# Altium schematic symbol library kmilo17pet-LT_OpAmp_LT1000.SchLib: 2280 symbols (part 65 of 79)
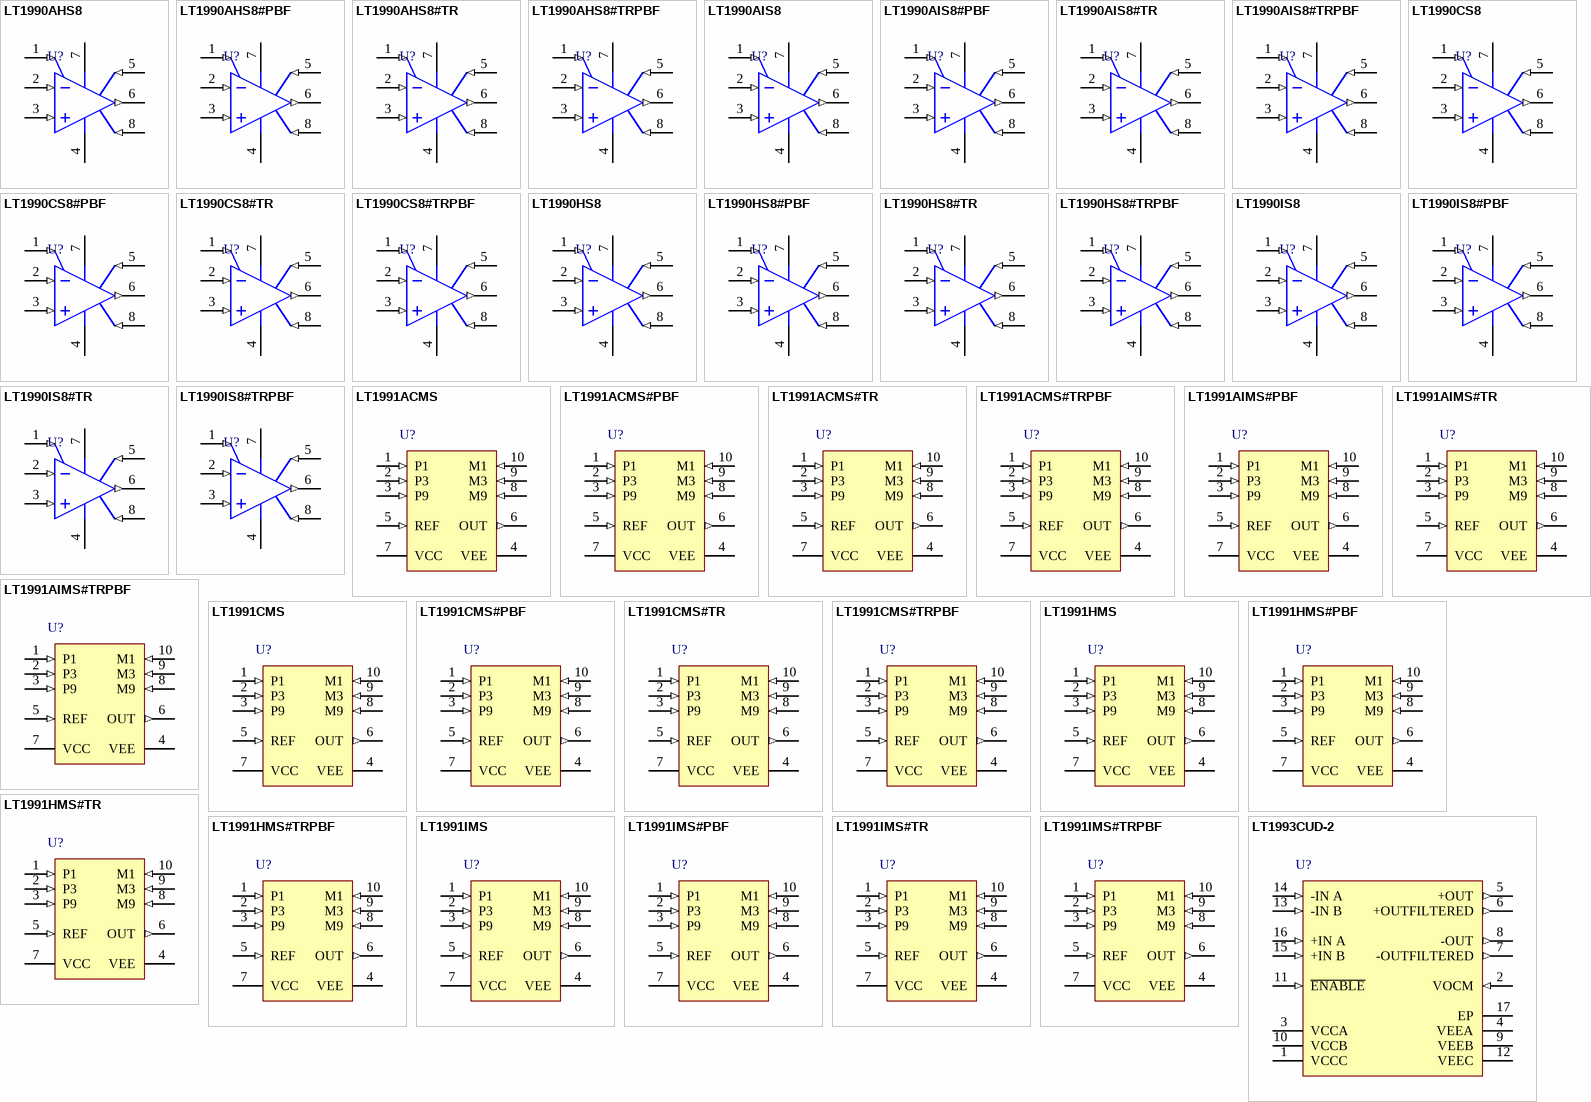
[diagram p169: symbols LT1990AHS8 to LT1993CUD-2]

## LT1991AIMS#PBF
designator U?
Single Channel, Precision, -13 to 14 Gain Selectable Operational Amplifier, 0.56 MHz Typical GBW, 0.12 V/us Typical SR, 2.4 to 40 V, 10-Pin SOP (MS-10), Industrial, Pb-Free; Linear Technology Part Number: LT1991; Manufacturer: Linear Technology; PartNumber: LT1991AIMS#PBF; Channels (#): 1; GBW (MHz) Typical: 0.56; Is (mA) Typical: 0.1; SR (V/us) Typical: 0.12; Vos (mV) Guaranteed: 0.05; Vos (mV) Typical: 0.015; Vs Max (V): 40; Vs Min (V): 2.4; DatasheetVersion: Rev. H; PackageVersion: Rev E; PackageReference: LT-MS-10; PackageDescription: 10-Lead Plastic MSOP, Body 3 x 3 mm, Pitch 0.5 mm; Supplier 1: Digi-Key; Supplier Part Number 1: LT1991AIMS#PBF-ND; Supplier 2: Farnell; Supplier Part Number 2: 2294659; Supplier 3: Newark; Supplier Part Number 3: 57M7683; RoHS: Pb-Free; Type: SGA; Mounting Technology: Surface Mount; ComponentLink1Description: Manufacturer URL; ComponentLink1URL: http://www.linear.com/; ComponentLink2Description: Datasheet; ComponentLink2URL: http://cds.linear.com/docs/en/datasheet/1991fh.pdf; ComponentLink3Description: Package Specification; ComponentLink3URL: http://cds.linear.com/docs/en/packaging/MSOP_10_05-08-1661.pdf
footprint LT-MS-10_N (SOP, 10-Leads, Body 3x3mm, Pitch 0.50mm, IPC Medium Density)
footprint LT-MS-10_L (SOP, 10-Leads, Body 3x3mm, Pitch 0.50mm, IPC High Density)
footprint LT-MS-10_M (SOP, 10-Leads, Body 3x3mm, Pitch 0.50mm, IPC Low Density)
pins: 1 P1 (in) "Noninverting Gain-of-1 input. Connects a 450k internal resistor to the op amp’s noninverting input.", 2 P3 (in) "Noninverting Gain-of-3 input. Connects a 150k internal resistor to the op amp’s noninverting input.", 3 P9 (in) "Noninverting Gain-of-9 input. Connects a 50k internal resistor to the op amp’s noninverting input.", 4 VEE (power) "Negative Power Supply. Can be either ground (in single supply applications), or a negative voltage (in split supply applications).", 5 REF (in) "Reference Input. Sets the output level when difference between inputs is zero. Connects a 450k internal resistor to the op amp’s noninverting input.", 6 OUT (out) "Output. VOUT = VREF + 1 ?(VP1 - VM1) + 3 ?(VP3 - VM3) + 9 ?(VP9 - VM9).", 7 VCC (power) "Positive Power Supply. Can be anything from 2.7V to 36V above the VEE voltage.", 8 M9 (in) "Inverting Gain-of-9 input. Connects a 50k internal resistor to the op amp’s inverting input.", 9 M3 (in) "Inverting Gain-of-3 input. Connects a 150k internal resistor to the op amp’s inverting input.", 10 M1 (in) "Inverting Gain-of-1 input. Connects a 450k internal resistor to the op amp’s inverting input."

## LT1991AIMS#TR
designator U?
Single Channel, Precision, -13 to 14 Gain Selectable Operational Amplifier, 0.56 MHz Typical GBW, 0.12 V/us Typical SR, 2.4 to 40 V, 10-Pin SOP (MS-10), Industrial, Reel; Linear Technology Part Number: LT1991; Manufacturer: Linear Technology; PartNumber: LT1991AIMS#TR; Channels (#): 1; GBW (MHz) Typical: 0.56; Is (mA) Typical: 0.1; SR (V/us) Typical: 0.12; Vos (mV) Guaranteed: 0.05; Vos (mV) Typical: 0.015; Vs Max (V): 40; Vs Min (V): 2.4; DatasheetVersion: Rev. H; PackageVersion: Rev E; PackageReference: LT-MS-10; PackageDescription: 10-Lead Plastic MSOP, Body 3 x 3 mm, Pitch 0.5 mm; Supplier 1: Digi-Key; Supplier Part Number 1: LT1991AIMS#TR-ND; Packing: Reel; Type: SGA; Mounting Technology: Surface Mount; ComponentLink1Description: Manufacturer URL; ComponentLink1URL: http://www.linear.com/; ComponentLink2Description: Datasheet; ComponentLink2URL: http://cds.linear.com/docs/en/datasheet/1991fh.pdf; ComponentLink3Description: Package Specification; ComponentLink3URL: http://cds.linear.com/docs/en/packaging/MSOP_10_05-08-1661.pdf
footprint LT-MS-10_N (SOP, 10-Leads, Body 3x3mm, Pitch 0.50mm, IPC Medium Density)
footprint LT-MS-10_L (SOP, 10-Leads, Body 3x3mm, Pitch 0.50mm, IPC High Density)
footprint LT-MS-10_M (SOP, 10-Leads, Body 3x3mm, Pitch 0.50mm, IPC Low Density)
pins: 1 P1 (in) "Noninverting Gain-of-1 input. Connects a 450k internal resistor to the op amp’s noninverting input.", 2 P3 (in) "Noninverting Gain-of-3 input. Connects a 150k internal resistor to the op amp’s noninverting input.", 3 P9 (in) "Noninverting Gain-of-9 input. Connects a 50k internal resistor to the op amp’s noninverting input.", 4 VEE (power) "Negative Power Supply. Can be either ground (in single supply applications), or a negative voltage (in split supply applications).", 5 REF (in) "Reference Input. Sets the output level when difference between inputs is zero. Connects a 450k internal resistor to the op amp’s noninverting input.", 6 OUT (out) "Output. VOUT = VREF + 1 ?(VP1 - VM1) + 3 ?(VP3 - VM3) + 9 ?(VP9 - VM9).", 7 VCC (power) "Positive Power Supply. Can be anything from 2.7V to 36V above the VEE voltage.", 8 M9 (in) "Inverting Gain-of-9 input. Connects a 50k internal resistor to the op amp’s inverting input.", 9 M3 (in) "Inverting Gain-of-3 input. Connects a 150k internal resistor to the op amp’s inverting input.", 10 M1 (in) "Inverting Gain-of-1 input. Connects a 450k internal resistor to the op amp’s inverting input."

## LT1991AIMS#TRPBF
designator U?
Single Channel, Precision, -13 to 14 Gain Selectable Operational Amplifier, 0.56 MHz Typical GBW, 0.12 V/us Typical SR, 2.4 to 40 V, 10-Pin SOP (MS-10), Industrial, Pb-Free, Reel; Linear Technology Part Number: LT1991; Manufacturer: Linear Technology; PartNumber: LT1991AIMS#TRPBF; Channels (#): 1; GBW (MHz) Typical: 0.56; Is (mA) Typical: 0.1; SR (V/us) Typical: 0.12; Vos (mV) Guaranteed: 0.05; Vos (mV) Typical: 0.015; Vs Max (V): 40; Vs Min (V): 2.4; DatasheetVersion: Rev. H; PackageVersion: Rev E; PackageReference: LT-MS-10; PackageDescription: 10-Lead Plastic MSOP, Body 3 x 3 mm, Pitch 0.5 mm; Supplier 1: Digi-Key; Supplier Part Number 1: LT1991AIMS#TRPBF-ND; Packing: Reel; RoHS: Pb-Free; Type: SGA; Mounting Technology: Surface Mount; ComponentLink1Description: Manufacturer URL; ComponentLink1URL: http://www.linear.com/; ComponentLink2Description: Datasheet; ComponentLink2URL: http://cds.linear.com/docs/en/datasheet/1991fh.pdf; ComponentLink3Description: Package Specification; ComponentLink3URL: http://cds.linear.com/docs/en/packaging/MSOP_10_05-08-1661.pdf
footprint LT-MS-10_N (SOP, 10-Leads, Body 3x3mm, Pitch 0.50mm, IPC Medium Density)
footprint LT-MS-10_L (SOP, 10-Leads, Body 3x3mm, Pitch 0.50mm, IPC High Density)
footprint LT-MS-10_M (SOP, 10-Leads, Body 3x3mm, Pitch 0.50mm, IPC Low Density)
pins: 1 P1 (in) "Noninverting Gain-of-1 input. Connects a 450k internal resistor to the op amp’s noninverting input.", 2 P3 (in) "Noninverting Gain-of-3 input. Connects a 150k internal resistor to the op amp’s noninverting input.", 3 P9 (in) "Noninverting Gain-of-9 input. Connects a 50k internal resistor to the op amp’s noninverting input.", 4 VEE (power) "Negative Power Supply. Can be either ground (in single supply applications), or a negative voltage (in split supply applications).", 5 REF (in) "Reference Input. Sets the output level when difference between inputs is zero. Connects a 450k internal resistor to the op amp’s noninverting input.", 6 OUT (out) "Output. VOUT = VREF + 1 ?(VP1 - VM1) + 3 ?(VP3 - VM3) + 9 ?(VP9 - VM9).", 7 VCC (power) "Positive Power Supply. Can be anything from 2.7V to 36V above the VEE voltage.", 8 M9 (in) "Inverting Gain-of-9 input. Connects a 50k internal resistor to the op amp’s inverting input.", 9 M3 (in) "Inverting Gain-of-3 input. Connects a 150k internal resistor to the op amp’s inverting input.", 10 M1 (in) "Inverting Gain-of-1 input. Connects a 450k internal resistor to the op amp’s inverting input."

## LT1991CMS
designator U?
Single Channel, Precision, -13 to 14 Gain Selectable Operational Amplifier, 0.56 MHz Typical GBW, 0.12 V/us Typical SR, 2.4 to 40 V, 10-Pin SOP (MS-10), Commercial; Linear Technology Part Number: LT1991; Manufacturer: Linear Technology; PartNumber: LT1991CMS; Channels (#): 1; GBW (MHz) Typical: 0.56; Is (mA) Typical: 0.1; SR (V/us) Typical: 0.12; Vos (mV) Guaranteed: 0.05; Vos (mV) Typical: 0.015; Vs Max (V): 40; Vs Min (V): 2.4; DatasheetVersion: Rev. H; PackageVersion: Rev E; PackageReference: LT-MS-10; PackageDescription: 10-Lead Plastic MSOP, Body 3 x 3 mm, Pitch 0.5 mm; Supplier 1: Digi-Key; Supplier Part Number 1: LT1991CMS-ND; Type: SGA; Mounting Technology: Surface Mount; ComponentLink1Description: Manufacturer URL; ComponentLink1URL: http://www.linear.com/; ComponentLink2Description: Datasheet; ComponentLink2URL: http://cds.linear.com/docs/en/datasheet/1991fh.pdf; ComponentLink3Description: Package Specification; ComponentLink3URL: http://cds.linear.com/docs/en/packaging/MSOP_10_05-08-1661.pdf
footprint LT-MS-10_N (SOP, 10-Leads, Body 3x3mm, Pitch 0.50mm, IPC Medium Density)
footprint LT-MS-10_L (SOP, 10-Leads, Body 3x3mm, Pitch 0.50mm, IPC High Density)
footprint LT-MS-10_M (SOP, 10-Leads, Body 3x3mm, Pitch 0.50mm, IPC Low Density)
pins: 1 P1 (in) "Noninverting Gain-of-1 input. Connects a 450k internal resistor to the op amp’s noninverting input.", 2 P3 (in) "Noninverting Gain-of-3 input. Connects a 150k internal resistor to the op amp’s noninverting input.", 3 P9 (in) "Noninverting Gain-of-9 input. Connects a 50k internal resistor to the op amp’s noninverting input.", 4 VEE (power) "Negative Power Supply. Can be either ground (in single supply applications), or a negative voltage (in split supply applications).", 5 REF (in) "Reference Input. Sets the output level when difference between inputs is zero. Connects a 450k internal resistor to the op amp’s noninverting input.", 6 OUT (out) "Output. VOUT = VREF + 1 ?(VP1 - VM1) + 3 ?(VP3 - VM3) + 9 ?(VP9 - VM9).", 7 VCC (power) "Positive Power Supply. Can be anything from 2.7V to 36V above the VEE voltage.", 8 M9 (in) "Inverting Gain-of-9 input. Connects a 50k internal resistor to the op amp’s inverting input.", 9 M3 (in) "Inverting Gain-of-3 input. Connects a 150k internal resistor to the op amp’s inverting input.", 10 M1 (in) "Inverting Gain-of-1 input. Connects a 450k internal resistor to the op amp’s inverting input."

## LT1991CMS#PBF
designator U?
Single Channel, Precision, -13 to 14 Gain Selectable Operational Amplifier, 0.56 MHz Typical GBW, 0.12 V/us Typical SR, 2.4 to 40 V, 10-Pin SOP (MS-10), Commercial, Pb-Free; Linear Technology Part Number: LT1991; Manufacturer: Linear Technology; PartNumber: LT1991CMS#PBF; Channels (#): 1; GBW (MHz) Typical: 0.56; Is (mA) Typical: 0.1; SR (V/us) Typical: 0.12; Vos (mV) Guaranteed: 0.05; Vos (mV) Typical: 0.015; Vs Max (V): 40; Vs Min (V): 2.4; DatasheetVersion: Rev. H; PackageVersion: Rev E; PackageReference: LT-MS-10; PackageDescription: 10-Lead Plastic MSOP, Body 3 x 3 mm, Pitch 0.5 mm; Supplier 1: Digi-Key; Supplier Part Number 1: LT1991CMS#PBF-ND; Supplier 2: Newark; Supplier Part Number 2: 57M7691; RoHS: Pb-Free; Type: SGA; Mounting Technology: Surface Mount; ComponentLink1Description: Manufacturer URL; ComponentLink1URL: http://www.linear.com/; ComponentLink2Description: Datasheet; ComponentLink2URL: http://cds.linear.com/docs/en/datasheet/1991fh.pdf; ComponentLink3Description: Package Specification; ComponentLink3URL: http://cds.linear.com/docs/en/packaging/MSOP_10_05-08-1661.pdf
footprint LT-MS-10_N (SOP, 10-Leads, Body 3x3mm, Pitch 0.50mm, IPC Medium Density)
footprint LT-MS-10_L (SOP, 10-Leads, Body 3x3mm, Pitch 0.50mm, IPC High Density)
footprint LT-MS-10_M (SOP, 10-Leads, Body 3x3mm, Pitch 0.50mm, IPC Low Density)
pins: 1 P1 (in) "Noninverting Gain-of-1 input. Connects a 450k internal resistor to the op amp’s noninverting input.", 2 P3 (in) "Noninverting Gain-of-3 input. Connects a 150k internal resistor to the op amp’s noninverting input.", 3 P9 (in) "Noninverting Gain-of-9 input. Connects a 50k internal resistor to the op amp’s noninverting input.", 4 VEE (power) "Negative Power Supply. Can be either ground (in single supply applications), or a negative voltage (in split supply applications).", 5 REF (in) "Reference Input. Sets the output level when difference between inputs is zero. Connects a 450k internal resistor to the op amp’s noninverting input.", 6 OUT (out) "Output. VOUT = VREF + 1 ?(VP1 - VM1) + 3 ?(VP3 - VM3) + 9 ?(VP9 - VM9).", 7 VCC (power) "Positive Power Supply. Can be anything from 2.7V to 36V above the VEE voltage.", 8 M9 (in) "Inverting Gain-of-9 input. Connects a 50k internal resistor to the op amp’s inverting input.", 9 M3 (in) "Inverting Gain-of-3 input. Connects a 150k internal resistor to the op amp’s inverting input.", 10 M1 (in) "Inverting Gain-of-1 input. Connects a 450k internal resistor to the op amp’s inverting input."

## LT1991CMS#TR
designator U?
Single Channel, Precision, -13 to 14 Gain Selectable Operational Amplifier, 0.56 MHz Typical GBW, 0.12 V/us Typical SR, 2.4 to 40 V, 10-Pin SOP (MS-10), Commercial, Reel; Linear Technology Part Number: LT1991; Manufacturer: Linear Technology; PartNumber: LT1991CMS#TR; Channels (#): 1; GBW (MHz) Typical: 0.56; Is (mA) Typical: 0.1; SR (V/us) Typical: 0.12; Vos (mV) Guaranteed: 0.05; Vos (mV) Typical: 0.015; Vs Max (V): 40; Vs Min (V): 2.4; DatasheetVersion: Rev. H; PackageVersion: Rev E; PackageReference: LT-MS-10; PackageDescription: 10-Lead Plastic MSOP, Body 3 x 3 mm, Pitch 0.5 mm; Supplier 1: Digi-Key; Supplier Part Number 1: LT1991CMS#TR-ND; Packing: Reel; Type: SGA; Mounting Technology: Surface Mount; ComponentLink1Description: Manufacturer URL; ComponentLink1URL: http://www.linear.com/; ComponentLink2Description: Datasheet; ComponentLink2URL: http://cds.linear.com/docs/en/datasheet/1991fh.pdf; ComponentLink3Description: Package Specification; ComponentLink3URL: http://cds.linear.com/docs/en/packaging/MSOP_10_05-08-1661.pdf
footprint LT-MS-10_N (SOP, 10-Leads, Body 3x3mm, Pitch 0.50mm, IPC Medium Density)
footprint LT-MS-10_L (SOP, 10-Leads, Body 3x3mm, Pitch 0.50mm, IPC High Density)
footprint LT-MS-10_M (SOP, 10-Leads, Body 3x3mm, Pitch 0.50mm, IPC Low Density)
pins: 1 P1 (in) "Noninverting Gain-of-1 input. Connects a 450k internal resistor to the op amp’s noninverting input.", 2 P3 (in) "Noninverting Gain-of-3 input. Connects a 150k internal resistor to the op amp’s noninverting input.", 3 P9 (in) "Noninverting Gain-of-9 input. Connects a 50k internal resistor to the op amp’s noninverting input.", 4 VEE (power) "Negative Power Supply. Can be either ground (in single supply applications), or a negative voltage (in split supply applications).", 5 REF (in) "Reference Input. Sets the output level when difference between inputs is zero. Connects a 450k internal resistor to the op amp’s noninverting input.", 6 OUT (out) "Output. VOUT = VREF + 1 ?(VP1 - VM1) + 3 ?(VP3 - VM3) + 9 ?(VP9 - VM9).", 7 VCC (power) "Positive Power Supply. Can be anything from 2.7V to 36V above the VEE voltage.", 8 M9 (in) "Inverting Gain-of-9 input. Connects a 50k internal resistor to the op amp’s inverting input.", 9 M3 (in) "Inverting Gain-of-3 input. Connects a 150k internal resistor to the op amp’s inverting input.", 10 M1 (in) "Inverting Gain-of-1 input. Connects a 450k internal resistor to the op amp’s inverting input."

## LT1991CMS#TRPBF
designator U?
Single Channel, Precision, -13 to 14 Gain Selectable Operational Amplifier, 0.56 MHz Typical GBW, 0.12 V/us Typical SR, 2.4 to 40 V, 10-Pin SOP (MS-10), Commercial, Pb-Free, Reel; Linear Technology Part Number: LT1991; Manufacturer: Linear Technology; PartNumber: LT1991CMS#TRPBF; Channels (#): 1; GBW (MHz) Typical: 0.56; Is (mA) Typical: 0.1; SR (V/us) Typical: 0.12; Vos (mV) Guaranteed: 0.05; Vos (mV) Typical: 0.015; Vs Max (V): 40; Vs Min (V): 2.4; DatasheetVersion: Rev. H; PackageVersion: Rev E; PackageReference: LT-MS-10; PackageDescription: 10-Lead Plastic MSOP, Body 3 x 3 mm, Pitch 0.5 mm; Supplier 1: Digi-Key; Supplier Part Number 1: LT1991CMS#TRPBF-ND; Supplier 2: Newark; Supplier Part Number 2: 57M7693; Packing: Reel; RoHS: Pb-Free; Type: SGA; Mounting Technology: Surface Mount; ComponentLink1Description: Manufacturer URL; ComponentLink1URL: http://www.linear.com/; ComponentLink2Description: Datasheet; ComponentLink2URL: http://cds.linear.com/docs/en/datasheet/1991fh.pdf; ComponentLink3Description: Package Specification; ComponentLink3URL: http://cds.linear.com/docs/en/packaging/MSOP_10_05-08-1661.pdf
footprint LT-MS-10_N (SOP, 10-Leads, Body 3x3mm, Pitch 0.50mm, IPC Medium Density)
footprint LT-MS-10_L (SOP, 10-Leads, Body 3x3mm, Pitch 0.50mm, IPC High Density)
footprint LT-MS-10_M (SOP, 10-Leads, Body 3x3mm, Pitch 0.50mm, IPC Low Density)
pins: 1 P1 (in) "Noninverting Gain-of-1 input. Connects a 450k internal resistor to the op amp’s noninverting input.", 2 P3 (in) "Noninverting Gain-of-3 input. Connects a 150k internal resistor to the op amp’s noninverting input.", 3 P9 (in) "Noninverting Gain-of-9 input. Connects a 50k internal resistor to the op amp’s noninverting input.", 4 VEE (power) "Negative Power Supply. Can be either ground (in single supply applications), or a negative voltage (in split supply applications).", 5 REF (in) "Reference Input. Sets the output level when difference between inputs is zero. Connects a 450k internal resistor to the op amp’s noninverting input.", 6 OUT (out) "Output. VOUT = VREF + 1 ?(VP1 - VM1) + 3 ?(VP3 - VM3) + 9 ?(VP9 - VM9).", 7 VCC (power) "Positive Power Supply. Can be anything from 2.7V to 36V above the VEE voltage.", 8 M9 (in) "Inverting Gain-of-9 input. Connects a 50k internal resistor to the op amp’s inverting input.", 9 M3 (in) "Inverting Gain-of-3 input. Connects a 150k internal resistor to the op amp’s inverting input.", 10 M1 (in) "Inverting Gain-of-1 input. Connects a 450k internal resistor to the op amp’s inverting input."

## LT1991HMS
designator U?
Single Channel, Precision, -13 to 14 Gain Selectable Operational Amplifier, 0.56 MHz Typical GBW, 0.12 V/us Typical SR, 2.4 to 40 V, 10-Pin SOP (MS-10), High Temperature / Automative; Linear Technology Part Number: LT1991; Manufacturer: Linear Technology; PartNumber: LT1991HMS; Channels (#): 1; GBW (MHz) Typical: 0.56; Is (mA) Typical: 0.1; SR (V/us) Typical: 0.12; Vos (mV) Guaranteed: 0.05; Vos (mV) Typical: 0.015; Vs Max (V): 40; Vs Min (V): 2.4; DatasheetVersion: Rev. H; PackageVersion: Rev E; PackageReference: LT-MS-10; PackageDescription: 10-Lead Plastic MSOP, Body 3 x 3 mm, Pitch 0.5 mm; Type: SGA; Mounting Technology: Surface Mount; ComponentLink1Description: Manufacturer URL; ComponentLink1URL: http://www.linear.com/; ComponentLink2Description: Datasheet; ComponentLink2URL: http://cds.linear.com/docs/en/datasheet/1991fh.pdf; ComponentLink3Description: Package Specification; ComponentLink3URL: http://cds.linear.com/docs/en/packaging/MSOP_10_05-08-1661.pdf
footprint LT-MS-10_N (SOP, 10-Leads, Body 3x3mm, Pitch 0.50mm, IPC Medium Density)
footprint LT-MS-10_L (SOP, 10-Leads, Body 3x3mm, Pitch 0.50mm, IPC High Density)
footprint LT-MS-10_M (SOP, 10-Leads, Body 3x3mm, Pitch 0.50mm, IPC Low Density)
pins: 1 P1 (in) "Noninverting Gain-of-1 input. Connects a 450k internal resistor to the op amp’s noninverting input.", 2 P3 (in) "Noninverting Gain-of-3 input. Connects a 150k internal resistor to the op amp’s noninverting input.", 3 P9 (in) "Noninverting Gain-of-9 input. Connects a 50k internal resistor to the op amp’s noninverting input.", 4 VEE (power) "Negative Power Supply. Can be either ground (in single supply applications), or a negative voltage (in split supply applications).", 5 REF (in) "Reference Input. Sets the output level when difference between inputs is zero. Connects a 450k internal resistor to the op amp’s noninverting input.", 6 OUT (out) "Output. VOUT = VREF + 1 ?(VP1 - VM1) + 3 ?(VP3 - VM3) + 9 ?(VP9 - VM9).", 7 VCC (power) "Positive Power Supply. Can be anything from 2.7V to 36V above the VEE voltage.", 8 M9 (in) "Inverting Gain-of-9 input. Connects a 50k internal resistor to the op amp’s inverting input.", 9 M3 (in) "Inverting Gain-of-3 input. Connects a 150k internal resistor to the op amp’s inverting input.", 10 M1 (in) "Inverting Gain-of-1 input. Connects a 450k internal resistor to the op amp’s inverting input."

## LT1991HMS#PBF
designator U?
Single Channel, Precision, -13 to 14 Gain Selectable Operational Amplifier, 0.56 MHz Typical GBW, 0.12 V/us Typical SR, 2.4 to 40 V, 10-Pin SOP (MS-10), High Temperature / Automative, Pb-Free; Linear Technology Part Number: LT1991; Manufacturer: Linear Technology; PartNumber: LT1991HMS#PBF; Channels (#): 1; GBW (MHz) Typical: 0.56; Is (mA) Typical: 0.1; SR (V/us) Typical: 0.12; Vos (mV) Guaranteed: 0.05; Vos (mV) Typical: 0.015; Vs Max (V): 40; Vs Min (V): 2.4; DatasheetVersion: Rev. H; PackageVersion: Rev E; PackageReference: LT-MS-10; PackageDescription: 10-Lead Plastic MSOP, Body 3 x 3 mm, Pitch 0.5 mm; Supplier 1: Digi-Key; Supplier Part Number 1: LT1991HMS#PBF-ND; Supplier 2: Farnell; Supplier Part Number 2: 1663538; Supplier 3: Newark; Supplier Part Number 3: 57M7699; RoHS: Pb-Free; Type: SGA; Mounting Technology: Surface Mount; ComponentLink1Description: Manufacturer URL; ComponentLink1URL: http://www.linear.com/; ComponentLink2Description: Datasheet; ComponentLink2URL: http://cds.linear.com/docs/en/datasheet/1991fh.pdf; ComponentLink3Description: Package Specification; ComponentLink3URL: http://cds.linear.com/docs/en/packaging/MSOP_10_05-08-1661.pdf
footprint LT-MS-10_N (SOP, 10-Leads, Body 3x3mm, Pitch 0.50mm, IPC Medium Density)
footprint LT-MS-10_L (SOP, 10-Leads, Body 3x3mm, Pitch 0.50mm, IPC High Density)
footprint LT-MS-10_M (SOP, 10-Leads, Body 3x3mm, Pitch 0.50mm, IPC Low Density)
pins: 1 P1 (in) "Noninverting Gain-of-1 input. Connects a 450k internal resistor to the op amp’s noninverting input.", 2 P3 (in) "Noninverting Gain-of-3 input. Connects a 150k internal resistor to the op amp’s noninverting input.", 3 P9 (in) "Noninverting Gain-of-9 input. Connects a 50k internal resistor to the op amp’s noninverting input.", 4 VEE (power) "Negative Power Supply. Can be either ground (in single supply applications), or a negative voltage (in split supply applications).", 5 REF (in) "Reference Input. Sets the output level when difference between inputs is zero. Connects a 450k internal resistor to the op amp’s noninverting input.", 6 OUT (out) "Output. VOUT = VREF + 1 ?(VP1 - VM1) + 3 ?(VP3 - VM3) + 9 ?(VP9 - VM9).", 7 VCC (power) "Positive Power Supply. Can be anything from 2.7V to 36V above the VEE voltage.", 8 M9 (in) "Inverting Gain-of-9 input. Connects a 50k internal resistor to the op amp’s inverting input.", 9 M3 (in) "Inverting Gain-of-3 input. Connects a 150k internal resistor to the op amp’s inverting input.", 10 M1 (in) "Inverting Gain-of-1 input. Connects a 450k internal resistor to the op amp’s inverting input."

## LT1991HMS#TR
designator U?
Single Channel, Precision, -13 to 14 Gain Selectable Operational Amplifier, 0.56 MHz Typical GBW, 0.12 V/us Typical SR, 2.4 to 40 V, 10-Pin SOP (MS-10), High Temperature / Automotive, Reel; Linear Technology Part Number: LT1991; Manufacturer: Linear Technology; PartNumber: LT1991HMS#TR; Channels (#): 1; GBW (MHz) Typical: 0.56; Is (mA) Typical: 0.1; SR (V/us) Typical: 0.12; Vos (mV) Guaranteed: 0.05; Vos (mV) Typical: 0.015; Vs Max (V): 40; Vs Min (V): 2.4; DatasheetVersion: Rev. H; PackageVersion: Rev E; PackageReference: LT-MS-10; PackageDescription: 10-Lead Plastic MSOP, Body 3 x 3 mm, Pitch 0.5 mm; Packing: Reel; Type: SGA; Mounting Technology: Surface Mount; ComponentLink1Description: Manufacturer URL; ComponentLink1URL: http://www.linear.com/; ComponentLink2Description: Datasheet; ComponentLink2URL: http://cds.linear.com/docs/en/datasheet/1991fh.pdf; ComponentLink3Description: Package Specification; ComponentLink3URL: http://cds.linear.com/docs/en/packaging/MSOP_10_05-08-1661.pdf
footprint LT-MS-10_N (SOP, 10-Leads, Body 3x3mm, Pitch 0.50mm, IPC Medium Density)
footprint LT-MS-10_L (SOP, 10-Leads, Body 3x3mm, Pitch 0.50mm, IPC High Density)
footprint LT-MS-10_M (SOP, 10-Leads, Body 3x3mm, Pitch 0.50mm, IPC Low Density)
pins: 1 P1 (in) "Noninverting Gain-of-1 input. Connects a 450k internal resistor to the op amp’s noninverting input.", 2 P3 (in) "Noninverting Gain-of-3 input. Connects a 150k internal resistor to the op amp’s noninverting input.", 3 P9 (in) "Noninverting Gain-of-9 input. Connects a 50k internal resistor to the op amp’s noninverting input.", 4 VEE (power) "Negative Power Supply. Can be either ground (in single supply applications), or a negative voltage (in split supply applications).", 5 REF (in) "Reference Input. Sets the output level when difference between inputs is zero. Connects a 450k internal resistor to the op amp’s noninverting input.", 6 OUT (out) "Output. VOUT = VREF + 1 ?(VP1 - VM1) + 3 ?(VP3 - VM3) + 9 ?(VP9 - VM9).", 7 VCC (power) "Positive Power Supply. Can be anything from 2.7V to 36V above the VEE voltage.", 8 M9 (in) "Inverting Gain-of-9 input. Connects a 50k internal resistor to the op amp’s inverting input.", 9 M3 (in) "Inverting Gain-of-3 input. Connects a 150k internal resistor to the op amp’s inverting input.", 10 M1 (in) "Inverting Gain-of-1 input. Connects a 450k internal resistor to the op amp’s inverting input."

## LT1991HMS#TRPBF
designator U?
Single Channel, Precision, -13 to 14 Gain Selectable Operational Amplifier, 0.56 MHz Typical GBW, 0.12 V/us Typical SR, 2.4 to 40 V, 10-Pin SOP (MS-10), High Temperature / Automotive, Pb-Free, Reel; Linear Technology Part Number: LT1991; Manufacturer: Linear Technology; PartNumber: LT1991HMS#TRPBF; Channels (#): 1; GBW (MHz) Typical: 0.56; Is (mA) Typical: 0.1; SR (V/us) Typical: 0.12; Vos (mV) Guaranteed: 0.05; Vos (mV) Typical: 0.015; Vs Max (V): 40; Vs Min (V): 2.4; DatasheetVersion: Rev. H; PackageVersion: Rev E; PackageReference: LT-MS-10; PackageDescription: 10-Lead Plastic MSOP, Body 3 x 3 mm, Pitch 0.5 mm; Supplier 1: Digi-Key; Supplier Part Number 1: LT1991HMS#TRPBF-ND; Packing: Reel; RoHS: Pb-Free; Type: SGA; Mounting Technology: Surface Mount; ComponentLink1Description: Manufacturer URL; ComponentLink1URL: http://www.linear.com/; ComponentLink2Description: Datasheet; ComponentLink2URL: http://cds.linear.com/docs/en/datasheet/1991fh.pdf; ComponentLink3Description: Package Specification; ComponentLink3URL: http://cds.linear.com/docs/en/packaging/MSOP_10_05-08-1661.pdf
footprint LT-MS-10_N (SOP, 10-Leads, Body 3x3mm, Pitch 0.50mm, IPC Medium Density)
footprint LT-MS-10_L (SOP, 10-Leads, Body 3x3mm, Pitch 0.50mm, IPC High Density)
footprint LT-MS-10_M (SOP, 10-Leads, Body 3x3mm, Pitch 0.50mm, IPC Low Density)
pins: 1 P1 (in) "Noninverting Gain-of-1 input. Connects a 450k internal resistor to the op amp’s noninverting input.", 2 P3 (in) "Noninverting Gain-of-3 input. Connects a 150k internal resistor to the op amp’s noninverting input.", 3 P9 (in) "Noninverting Gain-of-9 input. Connects a 50k internal resistor to the op amp’s noninverting input.", 4 VEE (power) "Negative Power Supply. Can be either ground (in single supply applications), or a negative voltage (in split supply applications).", 5 REF (in) "Reference Input. Sets the output level when difference between inputs is zero. Connects a 450k internal resistor to the op amp’s noninverting input.", 6 OUT (out) "Output. VOUT = VREF + 1 ?(VP1 - VM1) + 3 ?(VP3 - VM3) + 9 ?(VP9 - VM9).", 7 VCC (power) "Positive Power Supply. Can be anything from 2.7V to 36V above the VEE voltage.", 8 M9 (in) "Inverting Gain-of-9 input. Connects a 50k internal resistor to the op amp’s inverting input.", 9 M3 (in) "Inverting Gain-of-3 input. Connects a 150k internal resistor to the op amp’s inverting input.", 10 M1 (in) "Inverting Gain-of-1 input. Connects a 450k internal resistor to the op amp’s inverting input."

## LT1991IMS
designator U?
Single Channel, Precision, -13 to 14 Gain Selectable Operational Amplifier, 0.56 MHz Typical GBW, 0.12 V/us Typical SR, 2.4 to 40 V, 10-Pin SOP (MS-10), Industial; Linear Technology Part Number: LT1991; Manufacturer: Linear Technology; PartNumber: LT1991IMS; Channels (#): 1; GBW (MHz) Typical: 0.56; Is (mA) Typical: 0.1; SR (V/us) Typical: 0.12; Vos (mV) Guaranteed: 0.05; Vos (mV) Typical: 0.015; Vs Max (V): 40; Vs Min (V): 2.4; DatasheetVersion: Rev. H; PackageVersion: Rev E; PackageReference: LT-MS-10; PackageDescription: 10-Lead Plastic MSOP, Body 3 x 3 mm, Pitch 0.5 mm; Supplier 1: Digi-Key; Supplier Part Number 1: LT1991IMS-ND; Type: SGA; Mounting Technology: Surface Mount; ComponentLink1Description: Manufacturer URL; ComponentLink1URL: http://www.linear.com/; ComponentLink2Description: Datasheet; ComponentLink2URL: http://cds.linear.com/docs/en/datasheet/1991fh.pdf; ComponentLink3Description: Package Specification; ComponentLink3URL: http://cds.linear.com/docs/en/packaging/MSOP_10_05-08-1661.pdf
footprint LT-MS-10_N (SOP, 10-Leads, Body 3x3mm, Pitch 0.50mm, IPC Medium Density)
footprint LT-MS-10_L (SOP, 10-Leads, Body 3x3mm, Pitch 0.50mm, IPC High Density)
footprint LT-MS-10_M (SOP, 10-Leads, Body 3x3mm, Pitch 0.50mm, IPC Low Density)
pins: 1 P1 (in) "Noninverting Gain-of-1 input. Connects a 450k internal resistor to the op amp’s noninverting input.", 2 P3 (in) "Noninverting Gain-of-3 input. Connects a 150k internal resistor to the op amp’s noninverting input.", 3 P9 (in) "Noninverting Gain-of-9 input. Connects a 50k internal resistor to the op amp’s noninverting input.", 4 VEE (power) "Negative Power Supply. Can be either ground (in single supply applications), or a negative voltage (in split supply applications).", 5 REF (in) "Reference Input. Sets the output level when difference between inputs is zero. Connects a 450k internal resistor to the op amp’s noninverting input.", 6 OUT (out) "Output. VOUT = VREF + 1 ?(VP1 - VM1) + 3 ?(VP3 - VM3) + 9 ?(VP9 - VM9).", 7 VCC (power) "Positive Power Supply. Can be anything from 2.7V to 36V above the VEE voltage.", 8 M9 (in) "Inverting Gain-of-9 input. Connects a 50k internal resistor to the op amp’s inverting input.", 9 M3 (in) "Inverting Gain-of-3 input. Connects a 150k internal resistor to the op amp’s inverting input.", 10 M1 (in) "Inverting Gain-of-1 input. Connects a 450k internal resistor to the op amp’s inverting input."

## LT1991IMS#PBF
designator U?
Single Channel, Precision, -13 to 14 Gain Selectable Operational Amplifier, 0.56 MHz Typical GBW, 0.12 V/us Typical SR, 2.4 to 40 V, 10-Pin SOP (MS-10), Industrial, Pb-Free; Linear Technology Part Number: LT1991; Manufacturer: Linear Technology; PartNumber: LT1991IMS#PBF; Channels (#): 1; GBW (MHz) Typical: 0.56; Is (mA) Typical: 0.1; SR (V/us) Typical: 0.12; Vos (mV) Guaranteed: 0.05; Vos (mV) Typical: 0.015; Vs Max (V): 40; Vs Min (V): 2.4; DatasheetVersion: Rev. H; PackageVersion: Rev E; PackageReference: LT-MS-10; PackageDescription: 10-Lead Plastic MSOP, Body 3 x 3 mm, Pitch 0.5 mm; Supplier 1: Digi-Key; Supplier Part Number 1: LT1991IMS#PBF-ND; Supplier 2: Farnell; Supplier Part Number 2: 2294660; Supplier 3: Newark; Supplier Part Number 3: 57M7707; RoHS: Pb-Free; Type: SGA; Mounting Technology: Surface Mount; ComponentLink1Description: Manufacturer URL; ComponentLink1URL: http://www.linear.com/; ComponentLink2Description: Datasheet; ComponentLink2URL: http://cds.linear.com/docs/en/datasheet/1991fh.pdf; ComponentLink3Description: Package Specification; ComponentLink3URL: http://cds.linear.com/docs/en/packaging/MSOP_10_05-08-1661.pdf
footprint LT-MS-10_N (SOP, 10-Leads, Body 3x3mm, Pitch 0.50mm, IPC Medium Density)
footprint LT-MS-10_L (SOP, 10-Leads, Body 3x3mm, Pitch 0.50mm, IPC High Density)
footprint LT-MS-10_M (SOP, 10-Leads, Body 3x3mm, Pitch 0.50mm, IPC Low Density)
pins: 1 P1 (in) "Noninverting Gain-of-1 input. Connects a 450k internal resistor to the op amp’s noninverting input.", 2 P3 (in) "Noninverting Gain-of-3 input. Connects a 150k internal resistor to the op amp’s noninverting input.", 3 P9 (in) "Noninverting Gain-of-9 input. Connects a 50k internal resistor to the op amp’s noninverting input.", 4 VEE (power) "Negative Power Supply. Can be either ground (in single supply applications), or a negative voltage (in split supply applications).", 5 REF (in) "Reference Input. Sets the output level when difference between inputs is zero. Connects a 450k internal resistor to the op amp’s noninverting input.", 6 OUT (out) "Output. VOUT = VREF + 1 ?(VP1 - VM1) + 3 ?(VP3 - VM3) + 9 ?(VP9 - VM9).", 7 VCC (power) "Positive Power Supply. Can be anything from 2.7V to 36V above the VEE voltage.", 8 M9 (in) "Inverting Gain-of-9 input. Connects a 50k internal resistor to the op amp’s inverting input.", 9 M3 (in) "Inverting Gain-of-3 input. Connects a 150k internal resistor to the op amp’s inverting input.", 10 M1 (in) "Inverting Gain-of-1 input. Connects a 450k internal resistor to the op amp’s inverting input."

## LT1991IMS#TR
designator U?
Single Channel, Precision, -13 to 14 Gain Selectable Operational Amplifier, 0.56 MHz Typical GBW, 0.12 V/us Typical SR, 2.4 to 40 V, 10-Pin SOP (MS-10), Industrial, Reel; Linear Technology Part Number: LT1991; Manufacturer: Linear Technology; PartNumber: LT1991IMS#TR; Channels (#): 1; GBW (MHz) Typical: 0.56; Is (mA) Typical: 0.1; SR (V/us) Typical: 0.12; Vos (mV) Guaranteed: 0.05; Vos (mV) Typical: 0.015; Vs Max (V): 40; Vs Min (V): 2.4; DatasheetVersion: Rev. H; PackageVersion: Rev E; PackageReference: LT-MS-10; PackageDescription: 10-Lead Plastic MSOP, Body 3 x 3 mm, Pitch 0.5 mm; Supplier 1: Digi-Key; Supplier Part Number 1: LT1991IMS#TR-ND; Packing: Reel; Type: SGA; Mounting Technology: Surface Mount; ComponentLink1Description: Manufacturer URL; ComponentLink1URL: http://www.linear.com/; ComponentLink2Description: Datasheet; ComponentLink2URL: http://cds.linear.com/docs/en/datasheet/1991fh.pdf; ComponentLink3Description: Package Specification; ComponentLink3URL: http://cds.linear.com/docs/en/packaging/MSOP_10_05-08-1661.pdf
footprint LT-MS-10_N (SOP, 10-Leads, Body 3x3mm, Pitch 0.50mm, IPC Medium Density)
footprint LT-MS-10_L (SOP, 10-Leads, Body 3x3mm, Pitch 0.50mm, IPC High Density)
footprint LT-MS-10_M (SOP, 10-Leads, Body 3x3mm, Pitch 0.50mm, IPC Low Density)
pins: 1 P1 (in) "Noninverting Gain-of-1 input. Connects a 450k internal resistor to the op amp’s noninverting input.", 2 P3 (in) "Noninverting Gain-of-3 input. Connects a 150k internal resistor to the op amp’s noninverting input.", 3 P9 (in) "Noninverting Gain-of-9 input. Connects a 50k internal resistor to the op amp’s noninverting input.", 4 VEE (power) "Negative Power Supply. Can be either ground (in single supply applications), or a negative voltage (in split supply applications).", 5 REF (in) "Reference Input. Sets the output level when difference between inputs is zero. Connects a 450k internal resistor to the op amp’s noninverting input.", 6 OUT (out) "Output. VOUT = VREF + 1 ?(VP1 - VM1) + 3 ?(VP3 - VM3) + 9 ?(VP9 - VM9).", 7 VCC (power) "Positive Power Supply. Can be anything from 2.7V to 36V above the VEE voltage.", 8 M9 (in) "Inverting Gain-of-9 input. Connects a 50k internal resistor to the op amp’s inverting input.", 9 M3 (in) "Inverting Gain-of-3 input. Connects a 150k internal resistor to the op amp’s inverting input.", 10 M1 (in) "Inverting Gain-of-1 input. Connects a 450k internal resistor to the op amp’s inverting input."

## LT1991IMS#TRPBF
designator U?
Single Channel, Precision, -13 to 14 Gain Selectable Operational Amplifier, 0.56 MHz Typical GBW, 0.12 V/us Typical SR, 2.4 to 40 V, 10-Pin SOP (MS-10), Industial, Pb-Free, Reel; Linear Technology Part Number: LT1991; Manufacturer: Linear Technology; PartNumber: LT1991IMS#TRPBF; Channels (#): 1; GBW (MHz) Typical: 0.56; Is (mA) Typical: 0.1; SR (V/us) Typical: 0.12; Vos (mV) Guaranteed: 0.05; Vos (mV) Typical: 0.015; Vs Max (V): 40; Vs Min (V): 2.4; DatasheetVersion: Rev. H; PackageVersion: Rev E; PackageReference: LT-MS-10; PackageDescription: 10-Lead Plastic MSOP, Body 3 x 3 mm, Pitch 0.5 mm; Supplier 1: Digi-Key; Supplier Part Number 1: LT1991IMS#TRPBF-ND; Supplier 2: Newark; Supplier Part Number 2: 57M7709; Packing: Reel; RoHS: Pb-Free; Type: SGA; Mounting Technology: Surface Mount; ComponentLink1Description: Manufacturer URL; ComponentLink1URL: http://www.linear.com/; ComponentLink2Description: Datasheet; ComponentLink2URL: http://cds.linear.com/docs/en/datasheet/1991fh.pdf; ComponentLink3Description: Package Specification; ComponentLink3URL: http://cds.linear.com/docs/en/packaging/MSOP_10_05-08-1661.pdf
footprint LT-MS-10_N (SOP, 10-Leads, Body 3x3mm, Pitch 0.50mm, IPC Medium Density)
footprint LT-MS-10_L (SOP, 10-Leads, Body 3x3mm, Pitch 0.50mm, IPC High Density)
footprint LT-MS-10_M (SOP, 10-Leads, Body 3x3mm, Pitch 0.50mm, IPC Low Density)
pins: 1 P1 (in) "Noninverting Gain-of-1 input. Connects a 450k internal resistor to the op amp’s noninverting input.", 2 P3 (in) "Noninverting Gain-of-3 input. Connects a 150k internal resistor to the op amp’s noninverting input.", 3 P9 (in) "Noninverting Gain-of-9 input. Connects a 50k internal resistor to the op amp’s noninverting input.", 4 VEE (power) "Negative Power Supply. Can be either ground (in single supply applications), or a negative voltage (in split supply applications).", 5 REF (in) "Reference Input. Sets the output level when difference between inputs is zero. Connects a 450k internal resistor to the op amp’s noninverting input.", 6 OUT (out) "Output. VOUT = VREF + 1 ?(VP1 - VM1) + 3 ?(VP3 - VM3) + 9 ?(VP9 - VM9).", 7 VCC (power) "Positive Power Supply. Can be anything from 2.7V to 36V above the VEE voltage.", 8 M9 (in) "Inverting Gain-of-9 input. Connects a 50k internal resistor to the op amp’s inverting input.", 9 M3 (in) "Inverting Gain-of-3 input. Connects a 150k internal resistor to the op amp’s inverting input.", 10 M1 (in) "Inverting Gain-of-1 input. Connects a 450k internal resistor to the op amp’s inverting input."

## LT1993CUD-2
designator U?
Single Channel, Low Distortion, Low Noise Differential Amplifier/ADC Driver, AV = 2, 800 MHz Typical GBW, 1100 V/us Typical SR, 4 to 5.5 V, 16-Pin QFN (UD-16), Commercial; Linear Technology Part Number: LT1993-2; Manufacturer: Linear Technology; PartNumber: LT1993CUD-2; Channels (#): 1; GBW (MHz) Typical: 800; Is (mA) Typical: 100; SR (V/us) Typical: 1100; Vos (mV) Guaranteed: 6.5; Vs Max (V): 5.5; Vs Min (V): 4; DatasheetVersion: Rev. B; PackageReference: LT-UD-16; PackageDescription: 16-Lead Plastic QFN, Body 3.00 x 3.00 mm, Pitch 0.5 mm; Supplier 1: Newark; Supplier Part Number 1: 57M7714; Type: DIFF; Vos (mV) Typical: 1; Mounting Technology: Surface Mount; Code_JEDEC: MO-220; ComponentLink1Description: Manufacturer URL; ComponentLink1URL: http://www.linear.com/; ComponentLink2Description: Datasheet; ComponentLink2URL: http://cds.linear.com/docs/en/datasheet/199310fb.pdf; ComponentLink3Description: Package Specification; ComponentLink3URL: http://cds.linear.com/docs/en/packaging/QFN_16_05-08-1691.pdf
footprint LT-UD-16_N (QFN, 16-Leads, Body 3x3mm, Pitch 0.5mm, Thermal Pad 1.45x1.45mm, IPC Medium Density)
footprint LT-UD-16_L (QFN, 16-Leads, Body 3x3mm, Pitch 0.5mm, Thermal Pad 1.45x1.45mm, IPC High Density)
footprint LT-UD-16_M (QFN, 16-Leads, Body 3x3mm, Pitch 0.5mm, Thermal Pad 1.45x1.45mm, IPC Low Density)
pins: 1 VCCC (power) "Positive Power Supply (Normally Tied to 5V). All three pins must be tied to the same voltage. Bypass each pin with 1000pF and 0.1uF capacitors as close to the package as possible. Split supplies are possible as long as the (See Datasheet)", 2 VOCM (in) "This pin sets the output common mode voltage. Without additional biasing, both inputs bias to this voltage as well. This input is high impedance.", 3 VCCA (power) "Positive Power Supply (Normally Tied to 5V). All three pins must be tied to the same voltage. Bypass each pin with 1000pF and 0.1uF capacitors as close to the package as possible. Split supplies are possible as long as the (See Datasheet)", 4 VEEA (power) "Negative Power Supply (Normally Tied to Ground). All three pins must be tied to the same voltage. Split supplies are possible as long as the voltage between VCC and VEE is 5V. If these pins are not tied to ground, bypass (See Datasheet)", 5 +OUT (out) "Outputs (Unfi ltered). These pins are high bandwidth, low-impedance outputs. The DC output voltage at these pins is set to the voltage applied at VOCM.", 6 +OUTFILTERED (out) "Filtered Outputs. These pins add a series 25ohm resistor from the unfi ltered outputs and three 12pF capacitors. Each output has 12pF to VEE, plus an additional 12pF between each pin (See the Block Diagram). This fi lter has (See Datasheet)", 7 -OUTFILTERED (out) "Filtered Outputs. These pins add a series 25ohm resistor from the unfi ltered outputs and three 12pF capacitors. Each output has 12pF to VEE, plus an additional 12pF between each pin (See the Block Diagram). This fi lter has (See Datasheet)", 8 -OUT (out) "Outputs (Unfi ltered). These pins are high bandwidth, low-impedance outputs. The DC output voltage at these pins is set to the voltage applied at VOCM.", 9 VEEB (power) "Negative Power Supply (Normally Tied to Ground). All three pins must be tied to the same voltage. Split supplies are possible as long as the voltage between VCC and VEE is 5V. If these pins are not tied to ground, bypass (See Datasheet)", 10 VCCB (power) "Positive Power Supply (Normally Tied to 5V). All three pins must be tied to the same voltage. Bypass each pin with 1000pF and 0.1uF capacitors as close to the package as possible. Split supplies are possible as long as the (See Datasheet)", 11 ~{ENABLE} (in) "This pin is a TTL logic input referenced to the VEEC pin. If low, the LT1993-10 is enabled and draws typically 100mA of supply current. If high, the LT1993-10 is disabled and draws typically 250uA.", 12 VEEC (power) "Negative Power Supply (Normally Tied to Ground). All three pins must be tied to the same voltage. Split supplies are possible as long as the voltage between VCC and VEE is 5V. If these pins are not tied to ground, bypass (See Datasheet)", 13 -IN B (in) "Negative Inputs. These pins are normally tied together. These inputs may be DC- or ACcoupled. If the inputs are AC-coupled, they will self-bias to the voltage applied to the VOCM pin.", 14 -IN A (in) "Negative Inputs. These pins are normally tied together. These inputs may be DC- or ACcoupled. If the inputs are AC-coupled, they will self-bias to the voltage applied to the VOCM pin.", 15 +IN B (in) "Positive Inputs. These pins are normally tied together. These inputs may be DC- or ACcoupled. If the inputs are AC-coupled, they will self-bias to the voltage applied to the VOCM pin.", 16 +IN A (in) "Positive Inputs. These pins are normally tied together. These inputs may be DC- or ACcoupled. If the inputs are AC-coupled, they will self-bias to the voltage applied to the VOCM pin.", 17 EP (power) "Tie the pad to VEEC (Pin 12). If split supplies are used, DO NOT tie the pad to ground."

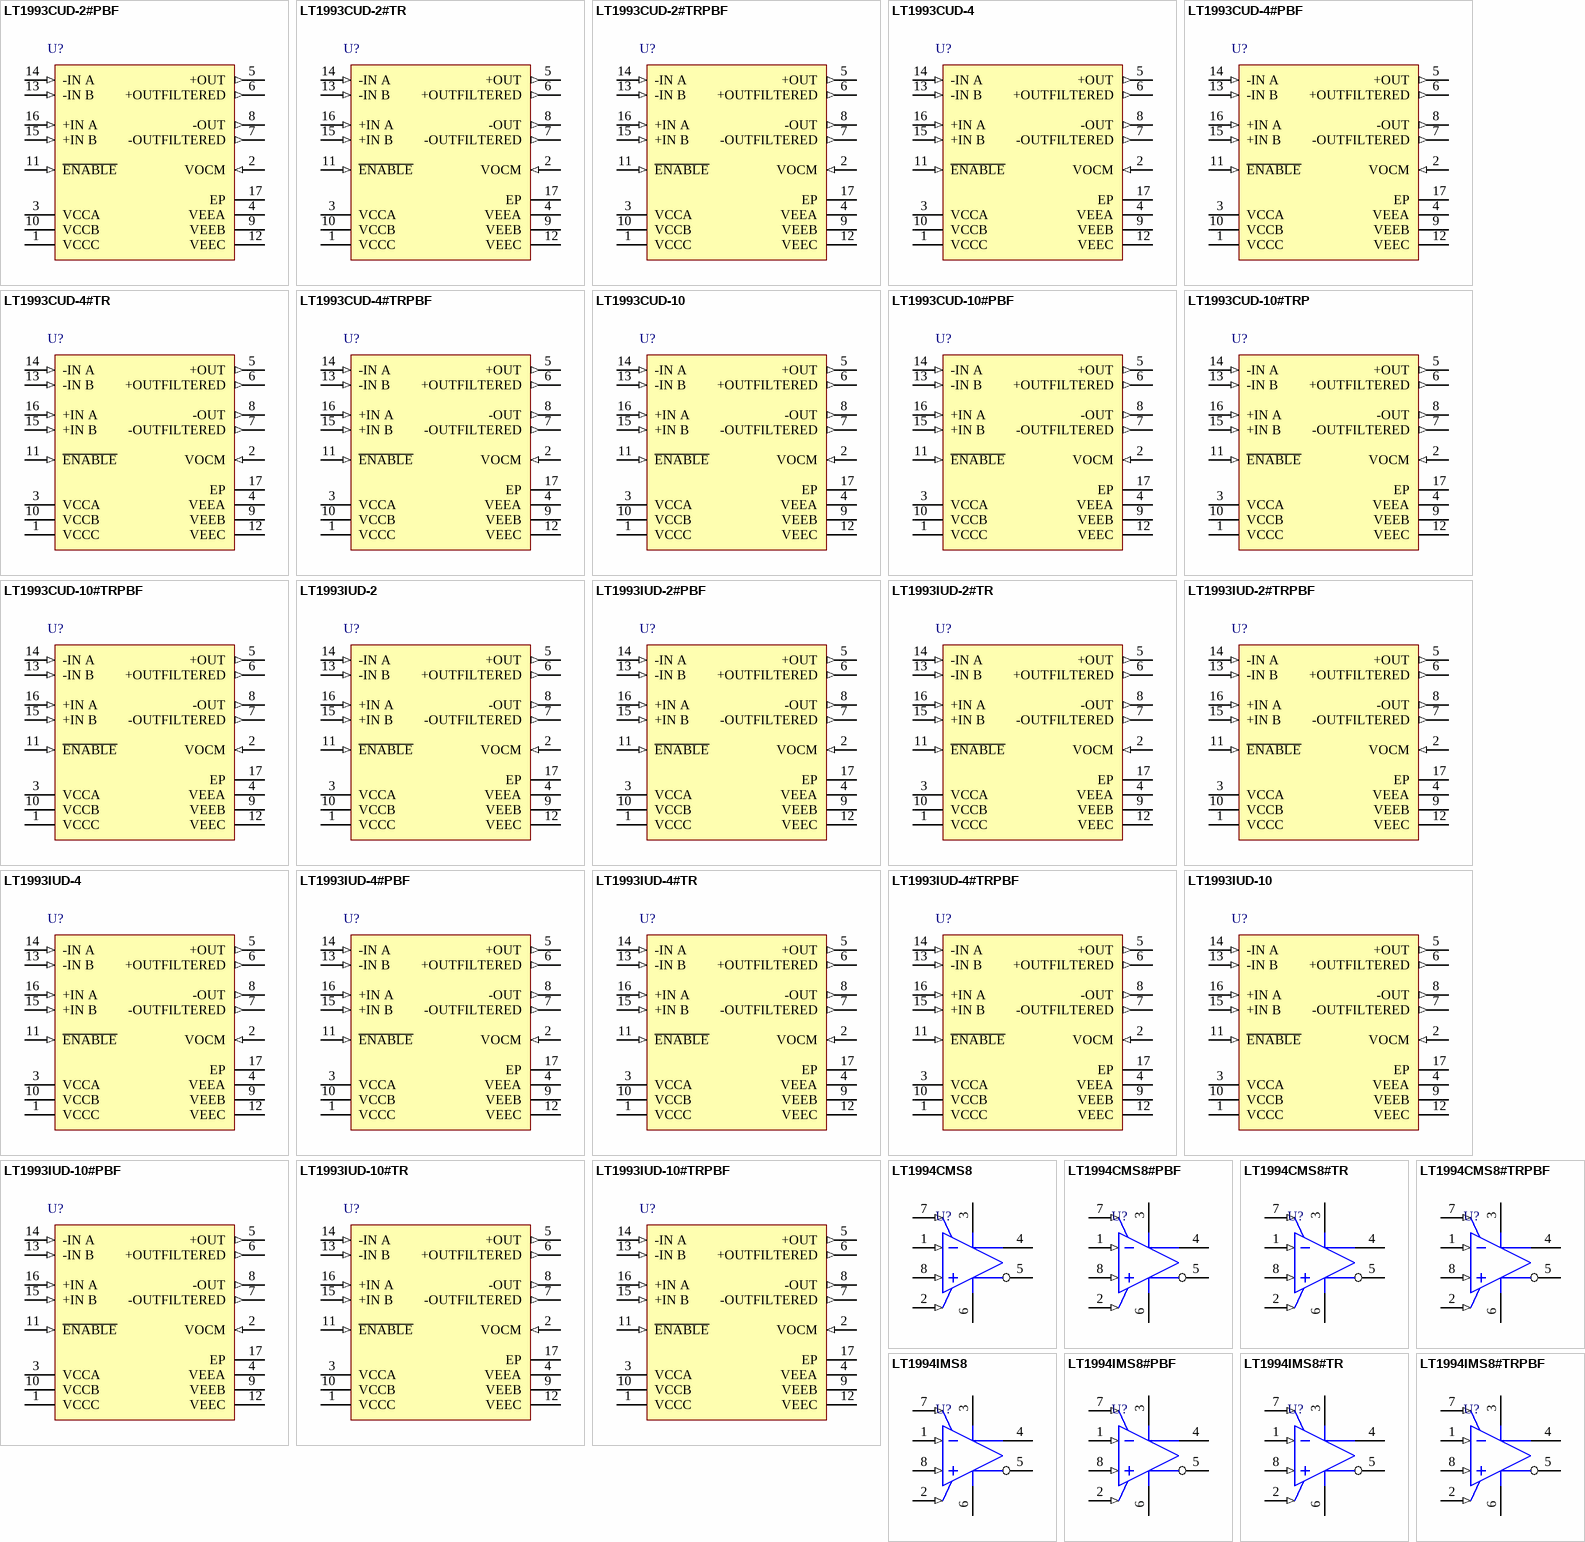
[diagram p98: symbols LT1993CUD-2#PBF to LT1994IMS8#TRPBF]

## LT1993CUD-2#PBF
designator U?
Single Channel, Low Distortion, Low Noise Differential Amplifier/ADC Driver, AV = 2, 800 MHz Typical GBW, 1100 V/us Typical SR, 4 to 5.5 V, 16-Pin QFN (UD-16), Commercial, Pb-Free; Linear Technology Part Number: LT1993-2; Manufacturer: Linear Technology; PartNumber: LT1993CUD-2#PBF; Channels (#): 1; GBW (MHz) Typical: 800; Is (mA) Typical: 100; SR (V/us) Typical: 1100; Vos (mV) Guaranteed: 6.5; Vs Max (V): 5.5; Vs Min (V): 4; DatasheetVersion: Rev. B; PackageReference: LT-UD-16; PackageDescription: 16-Lead Plastic QFN, Body 3.00 x 3.00 mm, Pitch 0.5 mm; Supplier 1: Digi-Key; Supplier Part Number 1: LT1993CUD-2#PBF-ND; Supplier 2: Newark; Supplier Part Number 2: 57M7715; RoHS: Pb-Free; Type: DIFF; Vos (mV) Typical: 1; Mounting Technology: Surface Mount; Code_JEDEC: MO-220; ComponentLink1Description: Manufacturer URL; ComponentLink1URL: http://www.linear.com/; ComponentLink2Description: Datasheet; ComponentLink2URL: http://cds.linear.com/docs/en/datasheet/199310fb.pdf; ComponentLink3Description: Package Specification; ComponentLink3URL: http://cds.linear.com/docs/en/packaging/QFN_16_05-08-1691.pdf
footprint LT-UD-16_N (QFN, 16-Leads, Body 3x3mm, Pitch 0.5mm, Thermal Pad 1.45x1.45mm, IPC Medium Density)
footprint LT-UD-16_L (QFN, 16-Leads, Body 3x3mm, Pitch 0.5mm, Thermal Pad 1.45x1.45mm, IPC High Density)
footprint LT-UD-16_M (QFN, 16-Leads, Body 3x3mm, Pitch 0.5mm, Thermal Pad 1.45x1.45mm, IPC Low Density)
pins: 1 VCCC (power) "Positive Power Supply (Normally Tied to 5V). All three pins must be tied to the same voltage. Bypass each pin with 1000pF and 0.1uF capacitors as close to the package as possible. Split supplies are possible as long as the (See Datasheet)", 2 VOCM (in) "This pin sets the output common mode voltage. Without additional biasing, both inputs bias to this voltage as well. This input is high impedance.", 3 VCCA (power) "Positive Power Supply (Normally Tied to 5V). All three pins must be tied to the same voltage. Bypass each pin with 1000pF and 0.1uF capacitors as close to the package as possible. Split supplies are possible as long as the (See Datasheet)", 4 VEEA (power) "Negative Power Supply (Normally Tied to Ground). All three pins must be tied to the same voltage. Split supplies are possible as long as the voltage between VCC and VEE is 5V. If these pins are not tied to ground, bypass (See Datasheet)", 5 +OUT (out) "Outputs (Unfi ltered). These pins are high bandwidth, low-impedance outputs. The DC output voltage at these pins is set to the voltage applied at VOCM.", 6 +OUTFILTERED (out) "Filtered Outputs. These pins add a series 25ohm resistor from the unfi ltered outputs and three 12pF capacitors. Each output has 12pF to VEE, plus an additional 12pF between each pin (See the Block Diagram). This fi lter has (See Datasheet)", 7 -OUTFILTERED (out) "Filtered Outputs. These pins add a series 25ohm resistor from the unfi ltered outputs and three 12pF capacitors. Each output has 12pF to VEE, plus an additional 12pF between each pin (See the Block Diagram). This fi lter has (See Datasheet)", 8 -OUT (out) "Outputs (Unfi ltered). These pins are high bandwidth, low-impedance outputs. The DC output voltage at these pins is set to the voltage applied at VOCM.", 9 VEEB (power) "Negative Power Supply (Normally Tied to Ground). All three pins must be tied to the same voltage. Split supplies are possible as long as the voltage between VCC and VEE is 5V. If these pins are not tied to ground, bypass (See Datasheet)", 10 VCCB (power) "Positive Power Supply (Normally Tied to 5V). All three pins must be tied to the same voltage. Bypass each pin with 1000pF and 0.1uF capacitors as close to the package as possible. Split supplies are possible as long as the (See Datasheet)", 11 ~{ENABLE} (in) "This pin is a TTL logic input referenced to the VEEC pin. If low, the LT1993-10 is enabled and draws typically 100mA of supply current. If high, the LT1993-10 is disabled and draws typically 250uA.", 12 VEEC (power) "Negative Power Supply (Normally Tied to Ground). All three pins must be tied to the same voltage. Split supplies are possible as long as the voltage between VCC and VEE is 5V. If these pins are not tied to ground, bypass (See Datasheet)", 13 -IN B (in) "Negative Inputs. These pins are normally tied together. These inputs may be DC- or ACcoupled. If the inputs are AC-coupled, they will self-bias to the voltage applied to the VOCM pin.", 14 -IN A (in) "Negative Inputs. These pins are normally tied together. These inputs may be DC- or ACcoupled. If the inputs are AC-coupled, they will self-bias to the voltage applied to the VOCM pin.", 15 +IN B (in) "Positive Inputs. These pins are normally tied together. These inputs may be DC- or ACcoupled. If the inputs are AC-coupled, they will self-bias to the voltage applied to the VOCM pin.", 16 +IN A (in) "Positive Inputs. These pins are normally tied together. These inputs may be DC- or ACcoupled. If the inputs are AC-coupled, they will self-bias to the voltage applied to the VOCM pin.", 17 EP (power) "Tie the pad to VEEC (Pin 12). If split supplies are used, DO NOT tie the pad to ground."